# Altium footprint library PcbLib1.PcbLib: 17 footprints (part 2 of 2)
Each footprint in its own frame and in the unit in brackets; x right, y up, seen from the top. Pads: shape width x height; smd on the part's side, far side on the other; paste and mask are expansions set on the pad; w line width, h text height; cw(c..) or ccw(c..) is an arc to the next point about the centre after c.
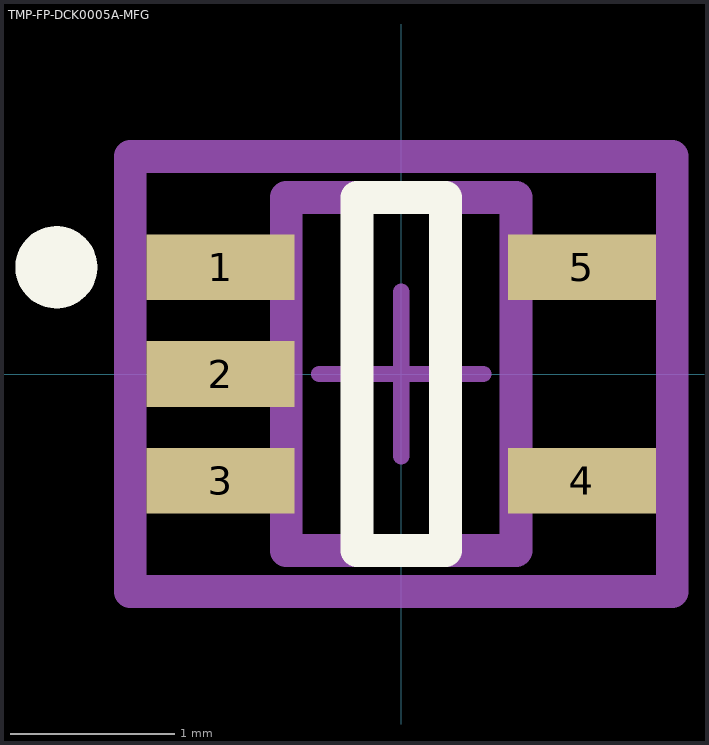
[diagram p1: the footprint, top view; thin cyan lines are the x and y axes]

## TMP-FP-DCK0005A-MFG [mm]
pads (5):
  rect 0.9x0.4 smd paste-1000 mask+0: 1(-1.1,0.65) 2(-1.1,0) 3(-1.1,-0.65) 4(1.1,-0.65) 5(1.1,0.65)
Top Overlay:
  circle w0.25: c-2.1,0.65 r0.125
  lines w0.2: -0.27,-1.075 0.27,-1.075 0.27,1.075 -0.27,1.075 -0.27,-1.075
Top Paste:
  rectangle: -1.525,0.475 -0.675,0.825
  rectangle: -1.525,-0.175 -0.675,0.175
  rectangle: -1.525,-0.825 -0.675,-0.475
  rectangle: 0.675,0.475 1.525,0.825
  rectangle: 0.675,-0.825 1.525,-0.475
Top 3D Body:
  lines w0.2: -0.7,-1.075 -0.7,1.075 0.7,1.075 0.7,-1.075 -0.7,-1.075
Top Courtyard:
  lines w0.2: -1.65,-1.325 -1.65,1.325 1.65,1.325 1.65,-1.325 -1.65,-1.325
Top Assembly:
  lines w0.2: -1.65,-1.325 -1.65,1.325 1.65,1.325 1.65,-1.325 -1.65,-1.325
  text ".Designator" at 0,0.188 h1
Top Component Center:
  lines w0.1: -0.5,0 0.5,0 ; 0,-0.5 0,0.5
3D body "IC_Texas_Instruments_SN74AUC1G125DCKR_eec.STEP": height 0.25, standoff 0, extent -1.65,-1.325 1.65,1.325